# Altium footprint library PcbLib1.PcbLib: 1 footprints
Each footprint in its own frame and in the unit in brackets; x right, y up, seen from the top. Pads: shape width x height; smd on the part's side, far side on the other; paste and mask are expansions set on the pad; w line width, h text height; cw(c..) or ccw(c..) is an arc to the next point about the centre after c.
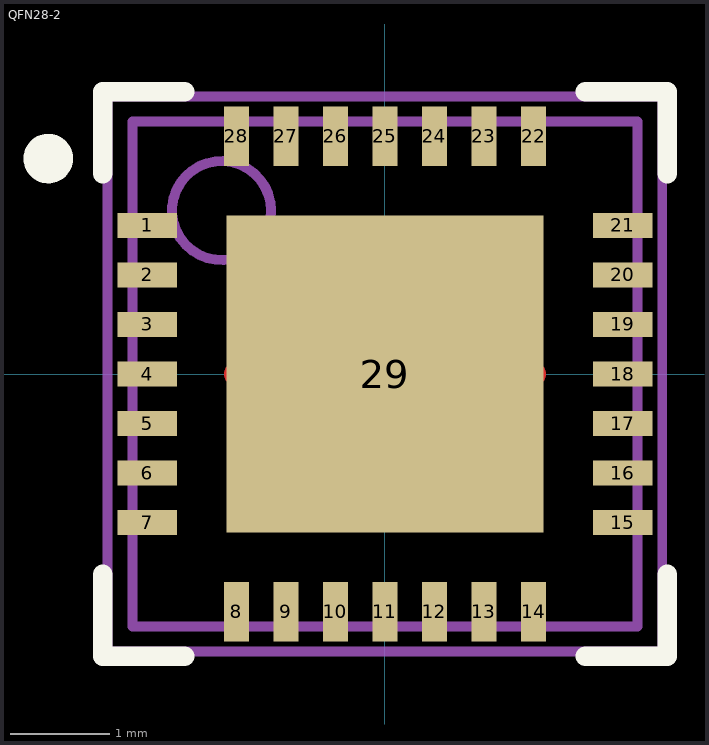
[diagram p0: the footprint, top view; thin cyan lines are the x and y axes]

## QFN28-2 [mm]
pads (29):
  rect 0.6x0.25 smd paste-0.125 mask+0.051: 1(-2.4,1.5) 2(-2.4,1) 3(-2.4,0.5) 4(-2.4,0) 5(-2.4,-0.5) 6(-2.4,-1) 7(-2.4,-1.5) 15(2.4,-1.5) 16(2.4,-1) 17(2.4,-0.5) 18(2.4,0) 19(2.4,0.5) 20(2.4,1) 21(2.4,1.5)
  rect 0.25x0.6 smd paste-0.125 mask+0.051: 8(-1.5,-2.4) 9(-1,-2.4) 10(-0.5,-2.4) 11(0,-2.4) 12(0.5,-2.4) 13(1,-2.4) 14(1.5,-2.4) 22(1.5,2.4) 23(1,2.4) 24(0.5,2.4) 25(0,2.4) 26(-0.5,2.4) 27(-1,2.4) 28(-1.5,2.4)
  rect 3.2x3.2 smd paste-1.8 mask+0.051: 29(0,0)
Top Layer:
  lines w0.254: -1.5,0 -0.5,0 0,0 0.5,0 1.5,0
Top Overlay:
  circle w0.25: c-3.4,2.175 r0.125
  lines w0.2: -2.85,-2.025 -2.85,-2.85 -2.025,-2.85 ; -2.85,2.025 -2.85,2.85 -2.025,2.85 ; 2.025,-2.85 2.85,-2.85 2.85,-2.025 ; 2.025,2.85 2.85,2.85 2.85,2.025
Top Paste:
  rectangle: 0.15,-1.7 1.7,-0.15
  region: -0.15,-0.15 -1.7,-0.15 -1.7,-1.7 -0.15,-1.7
  region: -0.15,1.7 -1.7,1.7 -1.7,0.15 -0.15,0.15
  rectangle: 0.15,0.15 1.7,1.7
  region: -1.375,-2.9 -1.375,-2.2 -1.625,-2.2 -1.625,-2.9
  region: -0.875,-2.9 -0.875,-2.2 -1.125,-2.2 -1.125,-2.9
  region: -0.375,-2.9 -0.375,-2.2 -0.625,-2.2 -0.625,-2.9
  region: 0.125,-2.9 0.125,-2.2 -0.125,-2.2 -0.125,-2.9
  region: 0.625,-2.9 0.625,-2.2 0.375,-2.2 0.375,-2.9
  region: 1.125,-2.9 1.125,-2.2 0.875,-2.2 0.875,-2.9
  region: 1.625,-2.9 1.625,-2.2 1.375,-2.2 1.375,-2.9
  region: -1.625,2.9 -1.625,2.2 -1.375,2.2 -1.375,2.9
  region: -1.125,2.9 -1.125,2.2 -0.875,2.2 -0.875,2.9
  region: -0.625,2.9 -0.625,2.2 -0.375,2.2 -0.375,2.9
  region: -0.125,2.9 -0.125,2.2 0.125,2.2 0.125,2.9
  region: 0.375,2.9 0.375,2.2 0.625,2.2 0.625,2.9
  region: 0.875,2.9 0.875,2.2 1.125,2.2 1.125,2.9
  region: 1.375,2.9 1.375,2.2 1.625,2.2 1.625,2.9
  region: 2.9,1.625 2.2,1.625 2.2,1.375 2.9,1.375
  region: 2.9,1.125 2.2,1.125 2.2,0.875 2.9,0.875
  region: 2.9,0.625 2.2,0.625 2.2,0.375 2.9,0.375
  region: 2.9,0.125 2.2,0.125 2.2,-0.125 2.9,-0.125
  region: 2.9,-0.375 2.2,-0.375 2.2,-0.625 2.9,-0.625
  region: 2.9,-0.875 2.2,-0.875 2.2,-1.125 2.9,-1.125
  region: 2.9,-1.375 2.2,-1.375 2.2,-1.625 2.9,-1.625
  rectangle: -2.9,-1.625 -2.2,-1.375
  rectangle: -2.9,-1.125 -2.2,-0.875
  rectangle: -2.9,-0.625 -2.2,-0.375
  rectangle: -2.9,-0.125 -2.2,0.125
  rectangle: -2.9,0.375 -2.2,0.625
  rectangle: -2.9,0.875 -2.2,1.125
  rectangle: -2.9,1.375 -2.2,1.625
Mechanical 13:
  circle w0.1: c-1.65,1.65 r0.5
  lines w0.1: -2.55,-2.55 -2.55,2.55 2.55,2.55 2.55,-2.55 -2.55,-2.55
Mechanical 15:
  lines w0.1: -0.5,0 0.5,0 ; 0,-0.5 0,0.5 ; -2.8,-2.8 -2.8,2.8 2.8,2.8 2.8,-2.8 -2.8,-2.8
3D body: height 1, standoff 0, extent -2.55,-2.55 2.55,2.55